# Altium schematic symbol library USB-Type-C.SchLib: 1 symbol
Pins are listed as number, name and electrical type; pins without a type are passive.

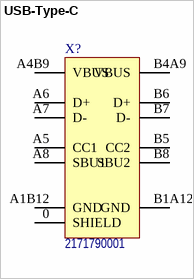
[diagram p0: symbol USB-Type-C]

## USB-Type-C
designator X?, comment 2171790001
USB type C Connector; Потребление: 0.0; Назначение: USB type C Connector; Наименование: 2171790001
footprint 2171790001 (16 circuits surface mount USB type C connector for USB2.0)
pins: 0 SHIELD, A1B12 GND, A4B9 VBUS, A5 CC1, A6 D+, A7 D-, A8 SBU1, B1A12 GND, B4A9 VBUS, B5 CC2, B6 D+, B7 D-, B8 SBU2